# Altium footprint library gxti.PcbLib: 1 footprints
Each footprint in its own frame and in the unit in brackets; x right, y up, seen from the top. Pads: shape width x height; smd on the part's side, far side on the other; paste and mask are expansions set on the pad; w line width, h text height; cw(c..) or ccw(c..) is an arc to the next point about the centre after c.
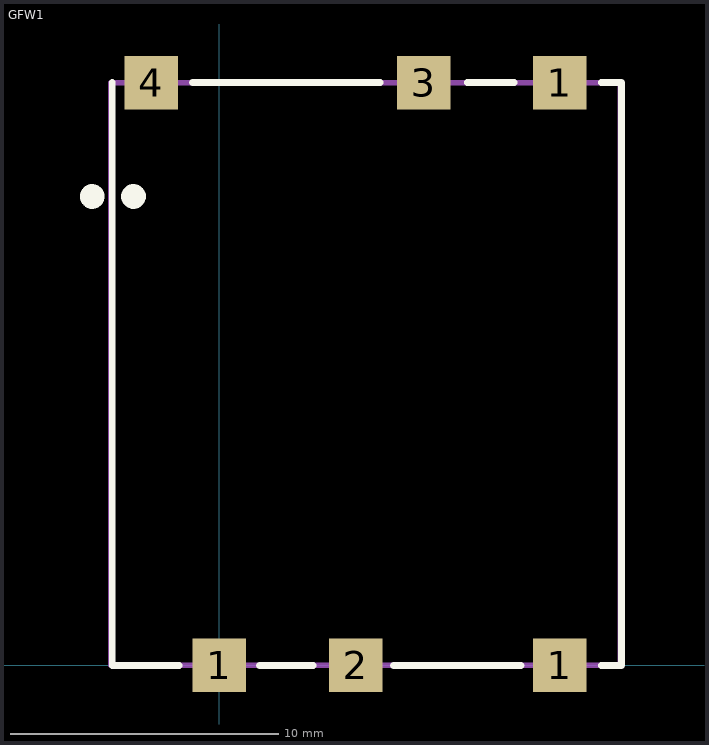
[diagram p0: the footprint, top view; thin cyan lines are the x and y axes]

## GFW1 [mm]
pads (6):
  rect 2x2 smd: 1(0,0) 1(12.7,0) 1(12.7,21.75) 2(5.08,0) 3(7.62,21.75) 4(-2.54,21.75)
Top Overlay:
  circle w0.508: c-4.75,17.5 r0.206
  circle w0.508: c-3.206,17.5 r0.206
  lines w0.254: -4,21.75 -4,0 -1.5,0 ; -1,21.75 6,21.75 ; 1.5,0 3.5,0 ; 6.5,0 11.25,0 ; 9.25,21.75 11,21.75 ; 14.25,0 15,0 15,21.75 14.25,21.75
Mechanical 13:
  lines w0.2: -4.05,0 14.95,0 14.95,21.75 -4.05,21.75 -4.05,0